# Altium integrated library RTCC.IntLib: 3 symbols
Pins are listed as number, name and electrical type; pins without a type are passive.

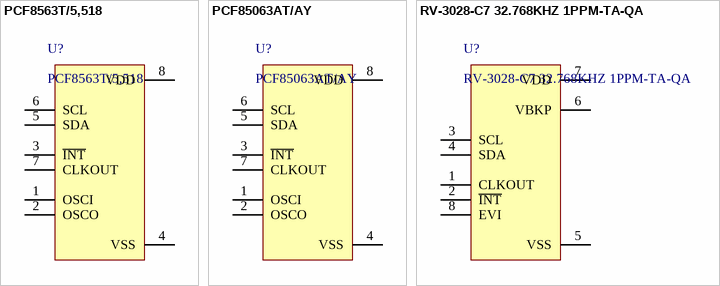
[diagram p0: symbols PCF8563T/5,518 to RV-3028-C7 32.768KHZ 1PPM-TA-QA]

## PCF8563T/5,518
designator U?
Integrated Circuit Real Time Clock (RTC) Callendar; 32.768kHz; 1.8-5.5V; -40+85 deg.C; SMD; SO8; Manufacturer: NXP Semiconductors; Frequency: 400kHz; Interface: 2-Wire, I2C; Clock Frequency: 32kHz; Max Supply Voltage: 5.5V; Min Supply Voltage: 1.8V; Number of Outputs: 1; Number of Timers/Counters: 0; Operating Supply Voltage: 2V; Time Format: HH:MM:SS; Supplier: DigiKey; Supplier Part Number: 568-6650-1-ND; Manufacturer Part Number: PCF8563T/5,518; RoHS: Compliant; Category: Real Time Clocks; Stock: 44290; Pricing: 1=1,09, 10=0,789, 25=0,712, 100=0,6278, 250=0,58768, 500=0,56348, 1000=0,54355 (USD); Ambient Temperature Range High: 85°C; Case/Package: SOP; China RoHS: Compliant; Contact Plating: Gold; Country of Origin: Mainland China, Thailand; Export Control Classification Number (ECCN) Code: EAR99; Height: 1.75mm; Height - Seated (Max): 1.75mm; Harmonized Tariff Schedule (HTS) Code: 8542.39.00.01; Introduction Date: 2004-03-12; Lead Free: Lead Free; Length: 4.9mm; Lifecycle Status: Production; Logic Function: Clock; Max Operating Temperature: 85°C; Min Operating Temperature: -40°C; Mounting Technology: Surface Mount; Pins: 8; Number of Terminals: 8; Radiation Hardening: No; REACH SVHC: Yes; Schedule B: 8542390000, 8542390000|8542390000|8542390000|8542390000|8542390000|8542390000|8542390000|8542390000|8542390000|8542390000|8542390000|8542390000|8542390000|8542390000|8542390000|8542390000|8542390000|8542390000|8542390000|8542390000|8542390000|8542390000|8542390000|85; Temperature Grade: Industrial; Terminal Pitch: 1.27mm; Width: 3.9mm; ComponentLink1URL: https://datasheet.octopart.com:443/PCF8563T-5%2C518-NXP-Semiconductors-datasheet-56908393.pdf?src-supplier=EBEE; ComponentLink1Description: https://datasheet.octopart.com:443/PCF8563T-5%2C518-NXP-Semiconductors-datasheet-56908393.pdf?src-supplier=EBEE; ComponentLink2URL: https://sigma.octopart.com:443/138890721/technical_drawing/NXP-Semiconductors-PCF8563T-5%2C518.pdf?src-supplier=Upverter; ComponentLink2Description: https://sigma.octopart.com:443/138890721/technical_drawing/NXP-Semiconductors-PCF8563T-5%2C518.pdf?src-supplier=Upverter; ComponentLink3URL: https://datasheet.octopart.com:443/PCF8563T/5%2C518-Philips-datasheet-11967884.pdf?src-supplier=IHS; ComponentLink3Description: https://datasheet.octopart.com:443/PCF8563T/5%2C518-Philips-datasheet-11967884.pdf?src-supplier=IHS; ComponentLink4URL: https://datasheet.octopart.com:443/PCF8563T/5%2C518-Philips-datasheet-10215985.pdf?src-supplier=Future+Electronics; ComponentLink4Description: https://datasheet.octopart.com:443/PCF8563T/5%2C518-Philips-datasheet-10215985.pdf?src-supplier=Future+Electronics; ComponentLink5URL: https://datasheet.octopart.com:443/PCF8563T/5%2C518-Philips-datasheet-8757238.pdf?src-supplier=Future+Electronics; ComponentLink5Description: https://datasheet.octopart.com:443/PCF8563T/5%2C518-Philips-datasheet-8757238.pdf?src-supplier=Future+Electronics; ComponentLink6URL: https://datasheet.octopart.com:443/PCF8563T-5%2C518-NXP-Semiconductors-datasheet-181732432.pdf?src-supplier=LCSC; ComponentLink6Description: https://datasheet.octopart.com:443/PCF8563T-5%2C518-NXP-Semiconductors-datasheet-181732432.pdf?src-supplier=LCSC; ComponentLink7URL: https://datasheet.octopart.com:443/PCF8563T-5%2C518-NXP-Semiconductors-datasheet-128477820.pdf?src-supplier=TME; ComponentLink7Description: https://datasheet.octopart.com:443/PCF8563T-5%2C518-NXP-Semiconductors-datasheet-128477820.pdf?src-supplier=TME; ComponentLink8URL: http://sigma.octopart.com:80/reach_statement/NXP-Semiconductors-company-13.pdf?src-supplier=Compliance+Statements; ComponentLink8Description: http://sigma.octopart.com:80/reach_statement/NXP-Semiconductors-company-13.pdf?src-supplier=Compliance+Statements; ComponentLink9URL: http://sigma.octopart.com:80/rohs_statement/NXP-Semiconductors-company-12.pdf?src-supplier=Compliance+Statements; ComponentLink9Description: http://sigma.octopart.com:80/rohs_statement/NXP-Semiconductors-company-12.pdf?src-supplier=Compliance+Statements; LCSC: C7440
footprint SOP127P600X175-8N (SOP, 8-Leads, Body 4,90x3,90mm, Pitch 1,27mm, IPC Medium Density)
pins: 1 OSCI, 2 OSCO, 3 ~{INT}, 4 VSS, 5 SDA, 6 SCL, 7 CLKOUT, 8 VDD

## PCF85063AT/AY
designator U?
Tiny Real-Time Clock/Calendar With Alarm Function And I2c-Bus Reel 13" Q1 Dp; Manufacturer: NXP Semiconductors; Interface: I2C,Serial,2-Wire; Logic Function: Clock; Time Format: HH:MM:SS (12/24 hr); Date Format: YY-MM-DD-dd; Supplier: Digikey; Supplier Part Number: 568-12403-1-ND; Manufacturer Part Number: PCF85063AT/AY; RoHS: Yes; Category: Real Time Clocks; Stock: 63464; Pricing: 1=0,91, 10=0,655, 25=0,59, 100=0,519, 250=0,48508, 500=0,46464, 1000=0,4478 (USD); Mounting Technology: Surface Mount; Case/Package: SOIC; Pins: 8; Min Operating Temperature: -40°C; Max Operating Temperature: 85°C; Packaging: Tape and Reel; Series: -; Radiation Hardening: No; Lead Free: Lead Free; RoHS Compliant: Yes; ComponentLink1URL: https://datasheet.ciiva.com/48465/pcf85063a-48465101.pdf?src-supplier=Avnet; ComponentLink1Description: https://datasheet.ciiva.com/48465/pcf85063a-48465101.pdf?src-supplier=Avnet
footprint SOP127P600X175-8N (SOP, 8-Leads, Body 4,90x3,90mm, Pitch 1,27mm, IPC Medium Density)
pins: 1 OSCI, 2 OSCO, 3 ~{INT}, 4 VSS, 5 SDA, 6 SCL, 7 CLKOUT, 8 VDD

## RV-3028-C7 32.768KHZ 1PPM-TA-QA
designator U?
IC Rtc Clk/calendar I2C 8-SMT; Manufacturer: Micro Crystal; Memory Size: 43B; Time Format: HH:MM:SS; Date Format: YY-MM-DD-dd; Supplier: Digikey; Supplier Part Number: 2195-RV-3028-C732.768KHZ1PPM-TA-QACT-ND; Manufacturer Part Number: RV-3028-C7 32.768KHZ 1PPM-TA-QA; RoHS: No; Category: Real Time Clocks; Stock: 84631; Pricing: 1=4,35, 10=2,877, 25=2,494, 100=2,0645, 250=1,85576, 500=1,72842 (USD); Mounting Technology: Surface Mount; Case/Package: SON; Pins: 8; Min Operating Temperature: -40°C; Max Operating Temperature: 85°C; Interface: I2C; Series: Automotive, AEC-Q200; ComponentLink1URL: https://www.microcrystal.com/fileadmin/Media/Products/RTC/Datasheet/RV-3028-C7.pdf?src-supplier=Digikey; ComponentLink1Description: https://www.microcrystal.com/fileadmin/Media/Products/RTC/Datasheet/RV-3028-C7.pdf?src-supplier=Digikey
footprint MICROCRYSTAL_RV-3028-C7 32.768KHZ 1PPM-TA-QA (8-WCDFN)
pins: 1 CLKOUT, 2 ~{INT}, 3 SCL, 4 SDA, 5 VSS, 6 VBKP, 7 VDD, 8 EVI